# EAGLE library part M07 (library con-amp-quick)
AMP QUICK CONNECTOR
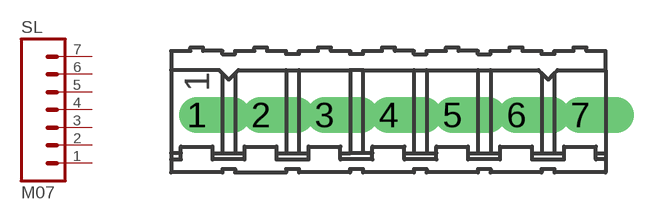
[diagram p1: symbol with the pads of 07P; footprint 07P]

Designator prefix SL

## M07  [07P]
1  1  pas
2  2  pas
3  3  pas
4  4  pas
5  5  pas
6  6  pas
7  7  pas

## Footprint 07P (pad centres in mm)
AMP QUICK CONNECTOR
drill 0.914 offset: 1 -7.62,0; 2 -5.08,0; 3 -2.54,0; 4 0,0; 5 2.54,0; 6 5.08,0; 7 7.62,0